# Altium footprint library ControlCircuit_PCB_Library_V1_0.PcbLib: 207 footprints (part 10 of 13)
Each footprint in its own frame and in the unit in brackets; x right, y up, seen from the top. Pads: shape width x height; smd on the part's side, far side on the other; paste and mask are expansions set on the pad; w line width, h text height; cw(c..) or ccw(c..) is an arc to the next point about the centre after c.
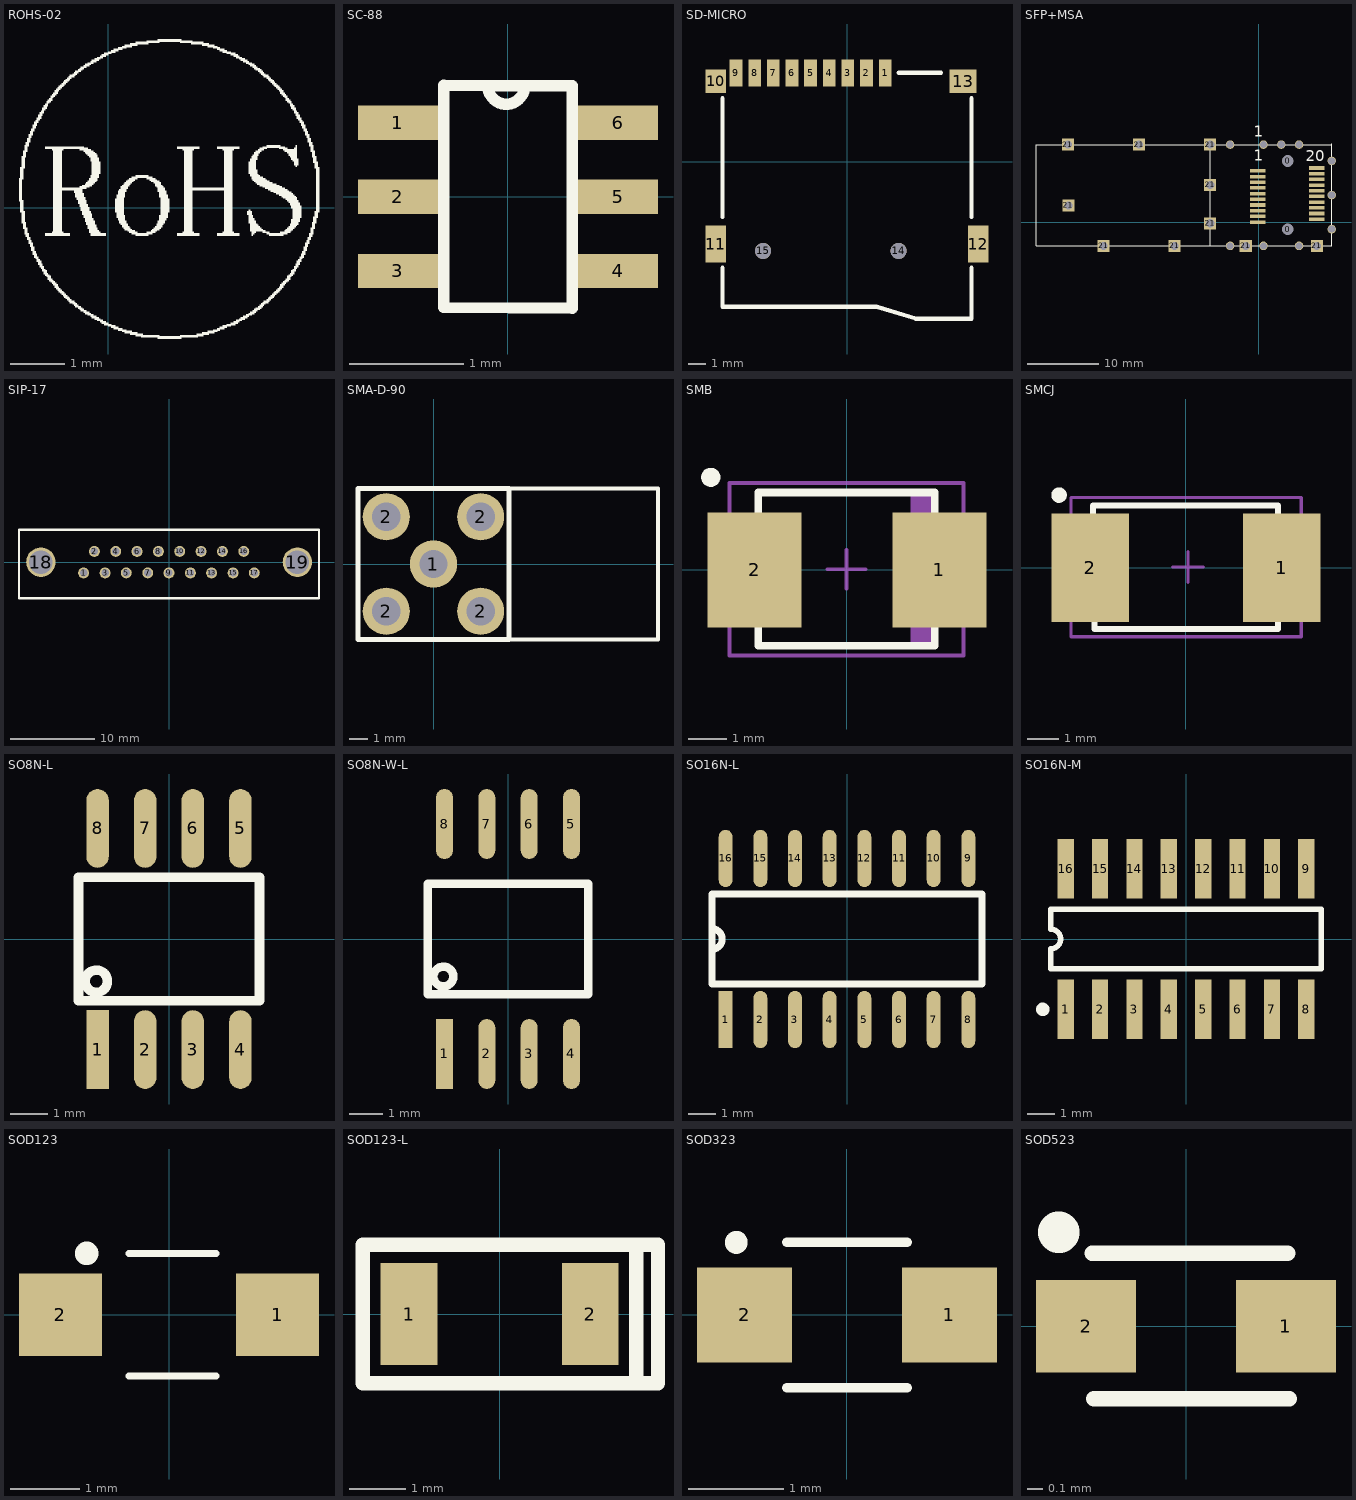
[diagram p9: the footprints below, top view; thin cyan lines are the x and y axes]

## ROHS-02 [mm]
Top Overlay:
  drawing of 873 lines, arcs and shapes, not listed

## SC-88 [mm]
pads (6):
  rect 0.7x0.3 smd: 1(-0.965,0.65) 2(-0.965,0) 3(-0.965,-0.65) 4(0.965,-0.65) 5(0.965,0) 6(0.965,0.65)
Top Overlay:
  lines w0.1: -0.563,-0.97 0.564,-0.975 0.564,0.975 -0.178,0.975 ccw(c-0.015,0.975) 0.147,0.975 -0.563,0.98 -0.563,-0.97

## SD-MICRO [mm]
pads (15):
  rect 0.75x1.6 smd: 1(2.25,5.25) 2(1.15,5.25) 3(0.05,5.25) 4(-1.05,5.25) 5(-2.15,5.25) 6(-3.25,5.25) 7(-4.35,5.25) 8(-5.45,5.25) 9(-6.55,5.25)
  rect 1.2x1.4 smd: 10(-7.75,4.75)
  rect 1.2x2.2 smd: 11(-7.75,-4.85) 12(7.75,-4.85)
  rect 1.6x1.4 smd: 13(6.85,4.75)
  round 0.95 hole 0.95 unplated: 14(3.05,-5.25) 15(-4.95,-5.25)
Top Overlay:
  lines w0.254: -7.35,-6.25 -7.35,-8.55 1.75,-8.55 4.05,-9.25 7.35,-9.25 7.35,-6.25 ; -7.35,-3.25 -7.35,3.75 ; 3.05,5.25 5.55,5.25 ; 7.35,-3.25 7.35,3.75

## SFP+MSA [mm]
pads (42):
  round 1.524 hole 1.65: 0(4.1,-1) 0(4.1,8.6)
  rect 2.2x0.5 smd: 1(-0.1,7.2) 2(-0.1,6.4) 3(-0.1,5.6) 4(-0.1,4.8) 5(-0.1,4) 6(-0.1,3.2) 7(-0.1,2.4) 8(-0.1,1.6) 9(-0.1,0.8) 10(-0.1,0) 11(8.2,0.4) 12(8.2,1.2) 13(8.2,2) 14(8.2,2.8) 15(8.2,3.6) 16(8.2,4.4) 17(8.2,5.2) 18(8.2,6) 19(8.2,6.8) 20(8.2,7.6)
  rect 1.7x1.7 hole 1.15: 21(-26.8,10.9) 21(-26.75,2.35) 21(-21.8,-3.35) 21(-16.8,10.9) 21(-11.8,-3.35) 21(-6.8,-0.175) 21(-6.8,5.225) 21(-6.8,10.9) 21(-1.8,-3.35) 21(8.2,-3.35)
  round 1.2 hole 1: 22(-4,-3.35) 22(-4,10.9) 22(0.7,-3.35) 22(0.7,10.9) 22(3.2,10.9) 22(5.7,-3.35) 22(5.7,10.9) 22(10.3,-1) 22(10.3,3.8) 22(10.3,8.6)
Top Overlay:
  lines w0.1: -6.8,-3.35 -6.8,10.95 ; -1.8,-3.35 8.2,-3.35 ; 10.3,-3.4 10.3,11 ; 10.3,-3.35 -31.3,-3.35 -31.3,10.9 10.3,10.9
  text "1" at -0.65,11.975 h1.52
  text "20" at 6.65,8.525 h1.52
  text "1" at -0.65,8.625 h1.52

## SIP-17 [mm]
pads (19):
  round 1.3 hole 0.9: 1(-10.175,-1.275) 2(-8.9,1.275) 3(-7.625,-1.275) 4(-6.35,1.275) 5(-5.1,-1.275) 6(-3.825,1.275) 7(-2.55,-1.275) 8(-1.275,1.275) 9(-0.025,-1.275) 10(1.25,1.275) 11(2.525,-1.275) 12(3.8,1.275) 13(5.05,-1.275) 14(6.325,1.275) 15(7.6,-1.275) 16(8.875,1.275) 17(10.125,-1.275)
  round 3.5 hole 2.8: 18(-15.25,0) 19(15.25,0)
Top Overlay:
  lines w0.254: -17.86,-4.294 17.818,-4.294 17.818,3.86 -17.86,3.86 -17.86,-4.294

## SMA-D-90 [mm]
pads (5):
  round 2.5 hole 1.5: 1(-0.025,0) 2(-2.525,-2.5) 2(-2.525,2.5) 2(2.475,-2.5) 2(2.475,2.5)
Top Overlay:
  lines w0.2: 3.975,-4 11.875,-4 11.875,4 3.975,4
  lines w0.254: -4.025,-4 3.975,-4 3.975,4 -4.025,4 -4.025,-4
3D body: height 13.2, standoff 6.8, extent -3.9,-3.3 12.1,3.1
3D body: height 13, standoff 0, extent -3.975,-3.925 4.025,3.975

## SMB [mm]
pads (2):
  rect 2.45x3 smd: 1(2.413,0) 2(-2.413,0)
Top Overlay:
  circle w0.25: c-3.554,2.413 r0.125
  lines w0.2: -2.311,-1.459 -2.311,-1.984 2.289,-1.984 2.289,-1.459 ; -2.311,1.491 -2.311,2.016 2.289,2.016 2.289,1.491
Mechanical 13:
  rectangle: 1.658,-1.955 2.272,1.985
  lines w0.1: -2.296,-1.954 2.274,-1.954 2.274,1.986 -2.296,1.986 -2.296,-1.954
Mechanical 15:
  lines w0.1: -0.511,0.016 0.489,0.016 ; -0.011,-0.484 -0.011,0.516 ; -3.061,-2.234 3.039,-2.234 3.039,2.266 -3.061,2.266 -3.061,-2.234

## SMCJ [mm]
height 2.4
pads (2):
  rect 2.5x3.5 smd: 1(3.1,0) 2(-3.1,0)
Top Overlay:
  circle w0.25: c-4.104,2.348 r0.125
  lines w0.2: -3.007,1.492 -3.007,2.016 2.976,2.016 2.976,1.491 ; -2.958,-1.448 -2.958,-1.984 2.976,-1.984 2.976,-1.459
Mechanical 13:
  lines w0.1: -1.609,1.986 2.961,1.986 2.961,-1.954
Mechanical 15:
  lines w0.1: -0.436,0.021 0.564,0.021 ; 0.064,-0.479 0.064,0.521 ; -3.713,-2.234 -3.713,2.266 3.726,2.266 3.726,-2.234 -3.713,-2.234

## SO8N-L [mm]
pads (8):
  rect 0.6x2.1 smd: 1(-1.905,-2.95)
  oval 0.6x2.1 smd: 2(-0.635,-2.95) 3(0.635,-2.95) 4(1.905,-2.95) 5(1.905,2.95) 6(0.635,2.95) 7(-0.635,2.95) 8(-1.905,2.95)
Top Overlay:
  circle w0.254: c-1.939,-1.126 r0.298
  lines w0.254: -2.413,-1.651 -2.413,1.651 2.413,1.651 2.413,-1.651 -2.413,-1.651

## SO8N-W-L [mm]
pads (8):
  rect 0.508x2.1 smd: 1(-1.905,-3.45)
  oval 0.508x2.1 smd: 2(-0.635,-3.45) 3(0.635,-3.45) 4(1.905,-3.45) 5(1.905,3.45) 6(0.635,3.45) 7(-0.635,3.45) 8(-1.905,3.45)
Top Overlay:
  circle w0.254: c-1.939,-1.126 r0.298
  lines w0.254: -2.413,-1.651 2.413,-1.651 2.413,1.651 -2.413,1.651 -2.413,-1.651

## SO16N-L [mm]
pads (16):
  rect 0.508x2.1 smd: 1(-4.445,-2.95)
  oval 0.508x2.1 smd: 2(-3.175,-2.95) 3(-1.905,-2.95) 4(-0.635,-2.95) 5(0.635,-2.95) 6(1.905,-2.95) 7(3.175,-2.95) 8(4.445,-2.95) 9(4.445,2.95) 10(3.175,2.95) 11(1.905,2.95) 12(0.635,2.95) 13(-0.635,2.95) 14(-1.905,2.95) 15(-3.175,2.95) 16(-4.445,2.95)
Top Overlay:
  lines w0.254: -4.953,-0.381 ccw(c-4.953,0) -4.953,0.381 ; -4.953,-1.651 -4.953,1.651 4.953,1.651 4.953,-1.651 -4.953,-1.651

## SO16N-M [mm]
pads (16):
  rect 0.6x2.2 smd: 1(-4.445,-2.6) 2(-3.175,-2.6) 3(-1.905,-2.6) 4(-0.635,-2.6) 5(0.635,-2.6) 6(1.905,-2.6) 7(3.175,-2.6) 8(4.445,-2.6) 9(4.445,2.6) 10(3.175,2.6) 11(1.905,2.6) 12(0.635,2.6) 13(-0.635,2.6) 14(-1.905,2.6) 15(-3.175,2.6) 16(-4.445,2.6)
Top Overlay:
  circle w0.25: c-5.295,-2.6 r0.125
  lines w0.2: -5,-1.1 5,-1.1 5,1.1 -5,1.1 -5,0.367 cw(c-5,0) -5,-0.367 -5,-1.1

## SOD123 [mm]
height 1.5
pads (2):
  rect 1.2x1.2 smd: 1(1.575,0) 2(-1.575,0)
Top Overlay:
  circle w0.3: c-1.194,0.889 r0.02
  lines w0.1: -0.584,-0.889 0.686,-0.889 ; -0.584,0.889 0.686,0.889

## SOD123-L [mm]
pads (2):
  rect 1x1.8 smd: 1(-1.6,0) 2(1.6,0)
Top Overlay:
  lines w0.254: 2.413,1.219 2.413,-1.219 ; 2.791,-1.219 2.413,-1.219 ; 2.794,-1.219 2.794,1.219 2.416,1.219 -2.413,1.219 -2.413,-1.219 2.413,-1.219

## SOD323 [mm]
pads (2):
  rect 1x1 smd: 1(1.075,0) 2(-1.075,0)
Top Overlay:
  circle w0.2: c-1.163,0.762 r0.02
  lines w0.1: -0.635,-0.762 0.635,-0.762 ; -0.635,0.762 0.635,0.762

## SOD523 [mm]
height 0.8
pads (2):
  rect 0.65x0.6 smd: 1(0.648,0) 2(-0.648,0)
Top Overlay:
  circle w0.229: c-0.825,0.608 r0.02
  lines w0.1: -0.61,0.472 0.66,0.472 ; -0.599,-0.472 0.671,-0.472